# Altium schematic symbol library PHANTOM_LIBRARY.SchLib: 61 symbols (part 1 of 3)
Pins are listed as number, name and electrical type; pins without a type are passive.

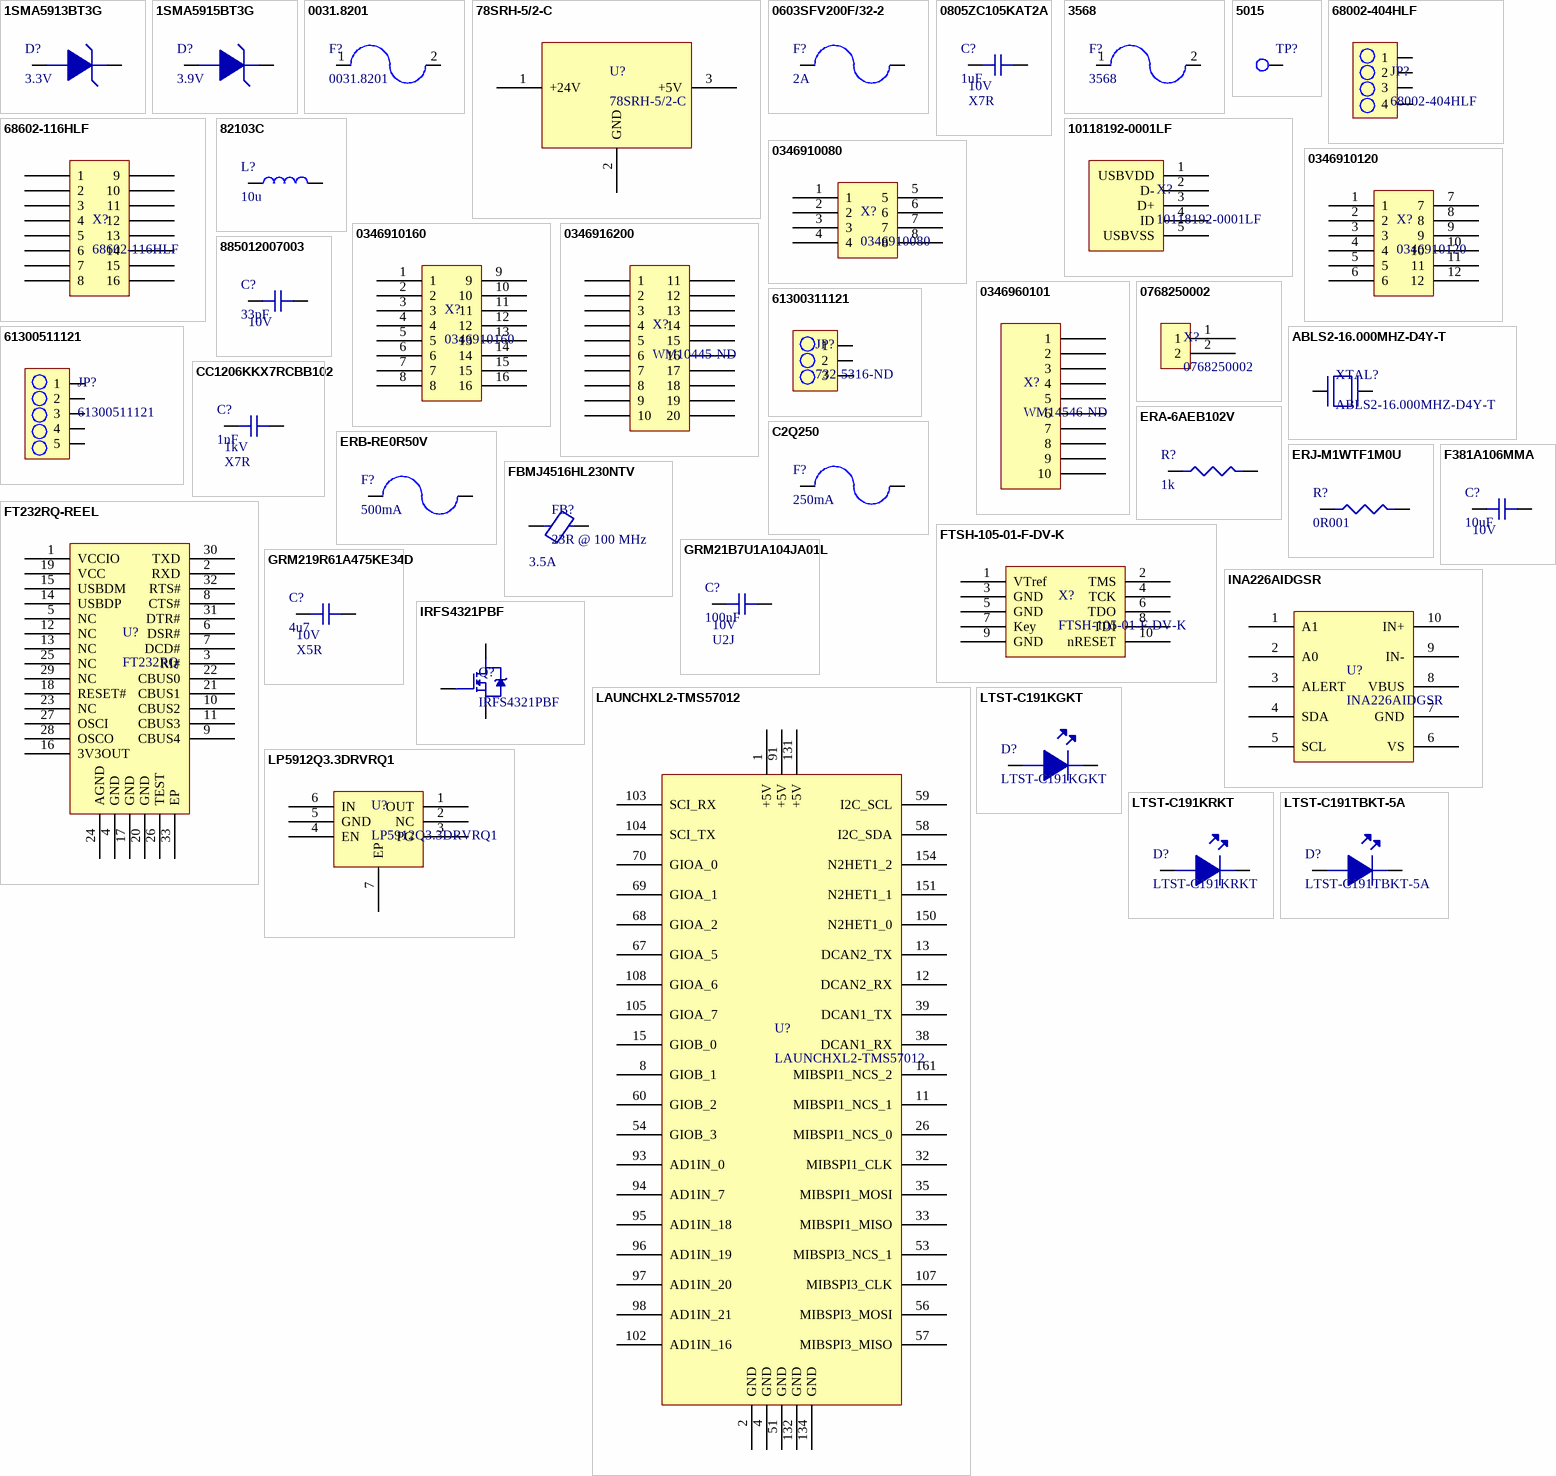
[diagram p0: symbols 1SMA5913BT3G to LTST-C191TBKT-5A]

## 1SMA5913BT3G
designator D?, comment 3.3V
DIODE ZENER 3.3V 1.5W SMA; Manufacturer: ON Semiconductor; Manufacturer Part Number: 1SMA5913BT3G; Material: Plastic; Forward Voltage: 1.5V; Tolerance: 5%; Impedance: 10R; Max Reverse Leakage Current: 50uA; Power Dissipation: 500mW; Zener Current: 455mA; Test Current: 113.6mA; Element Configuration: Single; Breakdown Voltage: 3.47V; Supplier 1: Digi-Key; Stock 1: 12228; Pricing 1: 1=0.38, 10=0.305, 100=0.2076, 500=0.1557, 1000=0.1168 (USD); Case/Package: SMA; Number of Pins: 2; Min Operating Temperature: -65°C; Max Operating Temperature: 150°C; Max Power Dissipation: 1.5W; Package Quantity: 1; Packaging: Tape and Reel; Zener Voltage: 3.3V; Voltage Tolerance: 5%; Working Voltage: 3.3V; Peak Reverse Current: 50uA; Voltage Rating (DC): 3.3V; Power Rating: 1.5W; Length: 4.57mm; Height: 2.05mm; Width: 2.92mm; Radiation Hardening: No; REACH SVHC: No SVHC; Lead Free: Lead Free; Halogen Free: Halogen Free; ComponentLink1URL: https://datasheet.ciiva.com/8026/1sma5913bt3-d-8026917.pdf; ComponentLink1Description: https://datasheet.ciiva.com/8026/1sma5913bt3-d-8026917.pdf; ComponentLink2URL: https://datasheet.ciiva.com/8345/1sma5913bt3-d-8345864.pdf; ComponentLink2Description: https://datasheet.ciiva.com/8345/1sma5913bt3-d-8345864.pdf; ComponentLink3URL: https://datasheet.ciiva.com/8346/1sma5913bt3-d-8346488.pdf; ComponentLink3Description: https://datasheet.ciiva.com/8346/1sma5913bt3-d-8346488.pdf; ComponentLink4URL: https://datasheet.ciiva.com/895/1sma5913bt3-d-895306.pdf; ComponentLink4Description: https://datasheet.ciiva.com/895/1sma5913bt3-d-895306.pdf; ComponentLink5URL: https://datasheet.ciiva.com/15142/getdatasheetpartid-90498-15142554.pdf; ComponentLink5Description: https://datasheet.ciiva.com/15142/getdatasheetpartid-90498-15142554.pdf; ComponentLink6URL: https://datasheet.ciiva.com/895/1sma5913bt3-d-895307.pdf; ComponentLink6Description: https://datasheet.ciiva.com/895/1sma5913bt3-d-895307.pdf; ComponentLink7URL: https://datasheet.ciiva.com/4733/1sma5913bt3-d-4733195.pdf; ComponentLink7Description: https://datasheet.ciiva.com/4733/1sma5913bt3-d-4733195.pdf; ComponentLink8URL: https://datasheet.ciiva.com/895/1sma5913bt3-d-895308.pdf; ComponentLink8Description: https://datasheet.ciiva.com/895/1sma5913bt3-d-895308.pdf; ComponentLink9URL: https://datasheet.ciiva.com/16472/1sma5913bt3-d-16472764.pdf; ComponentLink9Description: https://datasheet.ciiva.com/16472/1sma5913bt3-d-16472764.pdf; ComponentLink10URL: https://datasheet.ciiva.com/49027/70339279-49027772.pdf; ComponentLink10Description: https://datasheet.ciiva.com/49027/70339279-49027772.pdf; ComponentLink11URL: https://datasheet.ciiva.com/8026/1sma5913bt3-d-8026989.pdf; ComponentLink11Description: https://datasheet.ciiva.com/8026/1sma5913bt3-d-8026989.pdf; ComponentLink12URL: https://datasheet.ciiva.com/8026/1sma5913bt3-d-8026990.pdf; ComponentLink12Description: https://datasheet.ciiva.com/8026/1sma5913bt3-d-8026990.pdf; ComponentLink13URL: https://datasheet.ciiva.com/26092/1sma5913bt3-d-26092398.pdf; ComponentLink13Description: https://datasheet.ciiva.com/26092/1sma5913bt3-d-26092398.pdf; Supplier Part Number 1: 1SMA5913BT3GOSCT-ND
footprint DIODE_TVS (Molded Diode, 2-Leads, Body 4.29x2.59mm, IPC Medium Density)
pins: 1, 2

## 1SMA5915BT3G
designator D?, comment 3.9V
DIODE ZENER 3.9V 1.5W SMA; Manufacturer: ON Semiconductor; Manufacturer Part Number: 1SMA5915BT3G; Tolerance: 5%; Max Reverse Leakage Current: 12.5uA; Impedance: 7.5R; Element Configuration: Single; Forward Voltage: 1.5V; Power Dissipation: 500mW; Zener Current: 385mA; Test Current: 96.1mA; Breakdown Voltage: 12V; ESD Protection: Yes; Supplier 1: Digi-Key; Stock 1: 21605; Pricing 1: 1=0.41, 10=0.335, 100=0.2284, 500=0.1713, 1000=0.1285 (USD); Case/Package: SMA; Number of Pins: 2; Contact Plating: Tin,Matte; Min Operating Temperature: -65°C; Max Operating Temperature: 150°C; Max Power Dissipation: 1.5W; Package Quantity: 1; Packaging: Tape and Reel; Zener Voltage: 3.9V; Voltage Tolerance: 5%; Working Voltage: 3.9V; Peak Reverse Current: 12.5uA; Power Rating: 1.5W; Voltage Rating (DC): 3.9V; Length: 4.57mm; Height: 2.05mm; Width: 2.92mm; Radiation Hardening: No; Lead Free: Lead Free; Halogen Free: Halogen Free; REACH SVHC: No SVHC; ComponentLink1URL: https://datasheet.ciiva.com/895/1sma5913bt3-d-895333.pdf; ComponentLink1Description: https://datasheet.ciiva.com/895/1sma5913bt3-d-895333.pdf; ComponentLink2URL: https://datasheet.ciiva.com/26092/1sma5913bt3-d-26092405.pdf; ComponentLink2Description: https://datasheet.ciiva.com/26092/1sma5913bt3-d-26092405.pdf; ComponentLink3URL: https://datasheet.ciiva.com/895/1sma5913bt3-d-895334.pdf; ComponentLink3Description: https://datasheet.ciiva.com/895/1sma5913bt3-d-895334.pdf; ComponentLink4URL: https://datasheet.ciiva.com/895/1sma5913bt3-d-895335.pdf; ComponentLink4Description: https://datasheet.ciiva.com/895/1sma5913bt3-d-895335.pdf; ComponentLink5URL: https://datasheet.ciiva.com/8026/1sma5913bt3-d-8026919.pdf; ComponentLink5Description: https://datasheet.ciiva.com/8026/1sma5913bt3-d-8026919.pdf; ComponentLink6URL: https://datasheet.ciiva.com/16311/1sma5913bt3-d-16311880.pdf; ComponentLink6Description: https://datasheet.ciiva.com/16311/1sma5913bt3-d-16311880.pdf; ComponentLink7URL: https://datasheet.ciiva.com/10639/1sma5913bt3-d-10639017.pdf; ComponentLink7Description: https://datasheet.ciiva.com/10639/1sma5913bt3-d-10639017.pdf; Supplier Part Number 1: 1SMA5915BT3GOSCT-ND
footprint DIODE_TVS (Molded Diode, 2-Leads, Body 4.29x2.59mm, IPC Medium Density)
pins: 1, 2

## 0031.8201
designator F?
FUSE HOLDER, PCB, 20X5MM; Manufacturer: Schurter; Colour: Black; Body Material: Thermoplastic; Material: Tin,Thermoplastic; Current Rating: 10A; Voltage Rating: 250V; Number of Poles: 1; Voltage Rating (DC): 500V; Illumination Type: Illuminated; Insulation Resistance: 40MR; Approvals: UL,CSA,IEC,EN; Supplier 1: Digi-Key; Manufacturer Part Number: 0031.8201; Stock 1: 38678; Pricing 1: 1=0.63, 10=0.589, 20=0.548, 50=0.4932, 100=0.4658, 200=0.4384, 500=0.411, 1000=0.3836, 5000=0.3644 (USD); Mount: Through Hole,PCB; Weight: 0.059966oz; Contact Material: Tin,Copper Alloy; Contact Plating: Tin; Min Operating Temperature: -40°C; Max Operating Temperature: 85°C; Packaging: Bulk; Package Quantity: 100; Voltage Rating (AC): 500V; Number of Circuits: 1; Voltage: 500V; Termination: PC Pin; Fuse Current: 10A; Orientation: Horizontal; Length: 25mm; Depth: 10.8mm; Radiation Hardening: No; REACH SVHC: No SVHC; Lead Free: Lead Free; Flammability Rating: UL94 V-0; ComponentLink1URL: https://datasheet.ciiva.com/3014/typ-ogn-3014480.pdf; ComponentLink1Description: https://datasheet.ciiva.com/3014/typ-ogn-3014480.pdf; ComponentLink2URL: https://datasheet.ciiva.com/1269/1842496-1269251.pdf; ComponentLink2Description: https://datasheet.ciiva.com/1269/1842496-1269251.pdf; ComponentLink3URL: https://datasheet.ciiva.com/15188/getdatasheetpartid-392104-15188042.pdf; ComponentLink3Description: https://datasheet.ciiva.com/15188/getdatasheetpartid-392104-15188042.pdf; ComponentLink4URL: https://datasheet.ciiva.com/16203/typ-ogn-16203626.pdf; ComponentLink4Description: https://datasheet.ciiva.com/16203/typ-ogn-16203626.pdf; ComponentLink5URL: https://datasheet.ciiva.com/16463/typ-ogn-16463850.pdf; ComponentLink5Description: https://datasheet.ciiva.com/16463/typ-ogn-16463850.pdf; ComponentLink6URL: https://datasheet.ciiva.com/16215/typ-ogn-16215099.pdf; ComponentLink6Description: https://datasheet.ciiva.com/16215/typ-ogn-16215099.pdf; ComponentLink7URL: https://datasheet.ciiva.com/25893/typ-ogn-25893934.pdf; ComponentLink7Description: https://datasheet.ciiva.com/25893/typ-ogn-25893934.pdf; Supplier Part Number 1: 486-1258-ND
footprint FUSE_HOLDER
pins: 1, 2

## 78SRH-5/2-C
designator U?
DCDC 5V MURATA POWER SOLUTIONS 	   	78SRH-5/2-C 	   	IC, SYNC SWITCHING REGULATOR, TO-220-3; Output Current: 2A; Number of Outputs: 1; Max Input Voltage: 32V; Min Input Voltage: 8V; Nominal Input Voltage: 12V; Output Power: 10W; Efficiency: 95%; Isolation: Isolated; Supplier 1: Digi-Key; Manufacturer: Murata; Manufacturer Part Number: 78SRH-5/2-C; Stock 1: 2978; Pricing 1: 1=13.95, 5=12.2, 10=10.959 (USD); Mount: Through Hole; Case/Package: SIP; Number of Pins: 3; Weight: 1lb; Min Operating Temperature: -40°C; Max Operating Temperature: 70°C; Packaging: Box; Output Voltage: 5V; Max Output Current: 2A; Nominal Output Voltage: 5V; Min Input Voltage (DC): 8V; Package Quantity: 144; Max Input Voltage (DC): 32V; Voltage - Output 1: 5V; Current - Output 1: 2A; Max Output Power: 10W; Max Power Dissipation: 10W; Length: 20.3mm; Height: 0.28inch; Width: 0.8inch; Depth: 7.1mm; Radiation Hardening: No; REACH SVHC: No SVHC; Lead Free: Lead Free; ComponentLink1URL: https://datasheet.ciiva.com/3240/mpm-78sr-2a-a00-3240576.pdf; ComponentLink1Description: https://datasheet.ciiva.com/3240/mpm-78sr-2a-a00-3240576.pdf; ComponentLink2URL: https://datasheet.ciiva.com/1170/698935-1170225.pdf; ComponentLink2Description: https://datasheet.ciiva.com/1170/698935-1170225.pdf; ComponentLink3URL: https://datasheet.ciiva.com/26809/getdatasheetpartid-357559-26809336.pdf; ComponentLink3Description: https://datasheet.ciiva.com/26809/getdatasheetpartid-357559-26809336.pdf; ComponentLink4URL: https://datasheet.ciiva.com/16627/mpm-78sr-2a-a00-16627849.pdf; ComponentLink4Description: https://datasheet.ciiva.com/16627/mpm-78sr-2a-a00-16627849.pdf; ComponentLink5URL: https://datasheet.ciiva.com/16405/mpm-78sr-2a-a00-16405759.pdf; ComponentLink5Description: https://datasheet.ciiva.com/16405/mpm-78sr-2a-a00-16405759.pdf; Supplier Part Number 1: 811-2657-ND
footprint DCDC1
pins: 1 +24V, 2 GND, 3 +5V

## 0603SFV200F/32-2
designator F?, comment 2A
FUSE_2A SMD 0603 LITTELFUSE; Manufacturer Part Number: 0603SFV200F/32-2; Supplier 1: Digi-Key; Manufacturer: Littelfuse; Stock 1: 17588; Pricing 1: 1=1.2, 5=1.166, 10=1.091, 50=0.9028, 100=0.7524, 250=0.7336, 500=0.6207, 1000=0.5455 (USD); ComponentLink1URL: //media.digikey.com/pdf/Data%20Sheets/Littelfuse%20PDFs/SMD_Fuses_Fundamentals.pdf; ComponentLink1Description: //media.digikey.com/pdf/Data%20Sheets/Littelfuse%20PDFs/SMD_Fuses_Fundamentals.pdf; Supplier Part Number 1: 0603SFV200F/32-2CT-ND; Current Rating: 2A
footprint FUSE_0603 (Chip Diode, 2-Leads, Body 1.60x0.80mm, IPC Medium Density)
pins: 1, 2

## 0805ZC105KAT2A
designator C?, comment 1uF  Dielectric: X7R  Voltage: 10V
CAP CER 1UF 10V X7R 0805; Manufacturer: Kyocera AVX; Manufacturer Part Number: 0805ZC105KAT2A; Tolerance: 10%; Dissipation Factor: 5%; Insulation Resistance: 100GR; Supplier 1: Digi-Key; Stock 1: 385183; Pricing 1: 1=0.21, 10=0.147, 100=0.069, 500=0.0484, 1000=0.0401 (USD); Mount: Surface Mount,PCB; Case/Package: 0805; Number of Pins: 2; Case Code (Imperial): 0805; Case Code (Metric): 2012; Contact Plating: Tin,Matte; Min Operating Temperature: -55°C; Max Operating Temperature: 125°C; Capacitance: 1uF; Voltage Rating: 10V; Voltage Rating (DC): 10V; Packaging: Tape and Reel; Package Quantity: 1; Termination: SMD/SMT; Length: 2.01mm; Height: 1.4mm; Width: 1.25mm; Thickness: 0.055inch; Depth: 1.25mm; Radiation Hardening: No; REACH SVHC: No SVHC; Lead Free: Lead Free; ComponentLink1URL: https://datasheet.ciiva.com/2988/cx7r-2988071.pdf; ComponentLink1Description: https://datasheet.ciiva.com/2988/cx7r-2988071.pdf; ComponentLink2URL: https://datasheet.ciiva.com/2988/cx7r-2988072.pdf; ComponentLink2Description: https://datasheet.ciiva.com/2988/cx7r-2988072.pdf; ComponentLink3URL: https://datasheet.ciiva.com/14601/70001075-14601048.pdf; ComponentLink3Description: https://datasheet.ciiva.com/14601/70001075-14601048.pdf; ComponentLink4URL: https://datasheet.ciiva.com/14594/70001075-14594329.pdf; ComponentLink4Description: https://datasheet.ciiva.com/14594/70001075-14594329.pdf; ComponentLink5URL: https://datasheet.ciiva.com/25901/cx7r-25901193.pdf; ComponentLink5Description: https://datasheet.ciiva.com/25901/cx7r-25901193.pdf; ComponentLink6URL: https://datasheet.ciiva.com/15165/getdatasheetpartid-71567-15165451.pdf; ComponentLink6Description: https://datasheet.ciiva.com/15165/getdatasheetpartid-71567-15165451.pdf; ComponentLink7URL: https://datasheet.ciiva.com/151/cx7r-151916.pdf; ComponentLink7Description: https://datasheet.ciiva.com/151/cx7r-151916.pdf; ComponentLink8URL: https://datasheet.ciiva.com/151/cx7r-151917.pdf; ComponentLink8Description: https://datasheet.ciiva.com/151/cx7r-151917.pdf; ComponentLink9URL: https://datasheet.ciiva.com/151/cx7r-151918.pdf; ComponentLink9Description: https://datasheet.ciiva.com/151/cx7r-151918.pdf; ComponentLink10URL: https://datasheet.ciiva.com/11787/0900766b80ed4be2-11787102.pdf; ComponentLink10Description: https://datasheet.ciiva.com/11787/0900766b80ed4be2-11787102.pdf; ComponentLink11URL: https://datasheet.ciiva.com/7812/84526-7812223.pdf; ComponentLink11Description: https://datasheet.ciiva.com/7812/84526-7812223.pdf; ComponentLink12URL: https://datasheet.ciiva.com/19475/2011248-19475855.pdf; ComponentLink12Description: https://datasheet.ciiva.com/19475/2011248-19475855.pdf; Supplier Part Number 1: 478-1405-1-ND
footprint C0805
pins: 1, 2

## 3568
designator F?
FUSE HOLDER MINI AUTO PC; Manufacturer: Keystone Electronics; Colour: Black; Material: Brass,Nickel,Tin,Nylon; Body Material: Nylon; Current Rating: 20A; Voltage Rating (AC): 500V; Number of Poles: 1; Illumination Type: Illuminated; Fuse Type: Automotive; Approvals: UL; Supplier 1: Digi-Key; Manufacturer Part Number: 3568; Stock 1: 69840; Pricing 1: 1=0.98, 10=0.853, 50=0.7694, 100=0.7359, 250=0.669, 1000=0.599, 2500=0.502, 5000=0.4683 (USD); Mount: Vertical,PCB; Contact Material: Brass,Nickel,Tin; Contact Plating: Tin; Min Operating Temperature: -50°C; Max Operating Temperature: 145°C; Package Quantity: 1; Number of Circuits: 1; Voltage: 500V; Termination: PC Pin; Fuse Current: 20A; Orientation: Vertical; Length: 16mm; Depth: 6.73mm; REACH SVHC: No SVHC; Lead Free: Lead Free; Flammability Rating: UL94 V-0; ComponentLink1URL: https://datasheet.ciiva.com/16294/m60-2p40-16294706.pdf; ComponentLink1Description: https://datasheet.ciiva.com/16294/m60-2p40-16294706.pdf; ComponentLink2URL: https://datasheet.ciiva.com/16874/70182101-16874378.pdf; ComponentLink2Description: https://datasheet.ciiva.com/16874/70182101-16874378.pdf; Supplier Part Number 1: 36-3568-ND
footprint FUSE_MINI_HOLDER
pins: 1, 2

## 5015
designator TP?  (value not drawn)
TEST POINT, PCB, SMT; Manufacturer: Keystone Electronics; Number of Ports: 1; Supplier 1: Digi-Key; Manufacturer Part Number: 5015; Stock 1: 1937775; Pricing 1: 1=0.44, 10=0.421, 25=0.3604, 50=0.3064, 100=0.2944, 250=0.2644, 500=0.2524 (USD); Mount: Surface Mount; Colour: White; Contact Material: Bronze; Contact Plating: Tin,Silver,Lead; Material: Bronze,Silver; Package Quantity: 1; Packaging: Tape and Reel; Termination: Solder; Orientation: Straight; Length: 2.66mm; Height: 0.06inch; Thickness: 0.01inch; Depth: 1.01mm; REACH SVHC: No SVHC; Lead Free: Lead Free; ComponentLink1URL: https://datasheet.ciiva.com/2917/5015-2917616.pdf; ComponentLink1Description: https://datasheet.ciiva.com/2917/5015-2917616.pdf; ComponentLink2URL: https://datasheet.ciiva.com/2917/5015-2917617.pdf; ComponentLink2Description: https://datasheet.ciiva.com/2917/5015-2917617.pdf; ComponentLink3URL: https://datasheet.ciiva.com/1123/5015-1123862.pdf; ComponentLink3Description: https://datasheet.ciiva.com/1123/5015-1123862.pdf; ComponentLink4URL: https://datasheet.ciiva.com/16883/70182998-16883734.pdf; ComponentLink4Description: https://datasheet.ciiva.com/16883/70182998-16883734.pdf; Supplier Part Number 1: 36-5015CT-ND
footprint TP_HOOK
pins: 1

## 68002-404HLF
designator JP?
CONN_HeaderPins4pos 4 Positions Header, Unshrouded Connector 0.100" (2.54mm) Through Hole Tin; Manufacturer: Amphenol FCI; Number of Positions: 4; Max Voltage Rating (AC): 1.5kV; Gender: Male; Connector Type: Male Pin; Current Rating: 3A; Insulation Resistance: 5GR; Mating Post Length: 5.84mm; Supplier 1: Digi-Key; Manufacturer Part Number: 68002-404HLF; Stock 1: 4956; Pricing 1: 1=0.21, 10=0.195, 100=0.1352, 500=0.1144, 1000=0.0936, 5000=0.0832, 10000=0.0754 (USD); Mount: Through Hole; Contact Plating: Nickel,Tin; Contact Material: Bronze; Colour: Black; Housing Colour: Black; Housing Material: Thermoplastic; Min Operating Temperature: -65°C; Max Operating Temperature: 125°C; Number of Rows: 1; Packaging: Bulk; Package Quantity: 100; Termination: Solder; Number of Contacts: 4; Orientation: Straight; Voltage Rating: 1.5kV; Contact Gender: Male; Length: 10.16mm; Pitch: 2.54mm; Depth: 2.41mm; Contact Mating Length: 0.23inch; Termination Post Length: 3.81mm; Radiation Hardening: No; Flammability Rating: UL94 V-0; ComponentLink1URL: https://datasheet.ciiva.com/9474/68000-9474358.pdf; ComponentLink1Description: https://datasheet.ciiva.com/9474/68000-9474358.pdf; ComponentLink2URL: https://datasheet.ciiva.com/16725/68000-16725993.pdf; ComponentLink2Description: https://datasheet.ciiva.com/16725/68000-16725993.pdf; ComponentLink3URL: https://datasheet.ciiva.com/728/68000-728877.pdf; ComponentLink3Description: https://datasheet.ciiva.com/728/68000-728877.pdf; Supplier Part Number 1: 609-3305-ND
footprint 4PIN_HEADER
pins: 1, 2, 3, 4

## 68602-116HLF
designator X?
CONN_HeaderPins16pos1  6 Positions Header, Unshrouded Connector 0.100" (2.54mm) Through Hole Gold or Gold, GXT™; Manufacturer: Amphenol FCI; Current Rating: 3A; Voltage Rating: 1.5kV; Number of Positions: 16; Gender: Male; Connector Type: Male Pin; Insulation Resistance: 5GR; Row Spacing: 0.1inch; Mating Post Length: 5.84mm; Supplier 1: Digi-Key; Manufacturer Part Number: 68602-116HLF; Stock 1: 1898; Pricing 1: 1=0.79, 10=0.698, 100=0.6019, 500=0.4925, 1000=0.4378, 5000=0.383, 10000=0.3639 (USD); Mount: Through Hole; Contact Plating: Nickel,Gold,GXT; Contact Material: Bronze; Colour: Black; Housing Colour: Black; Housing Material: Thermoplastic; Min Operating Temperature: -65°C; Max Operating Temperature: 125°C; Number of Rows: 2; Packaging: Bulk; Package Quantity: 100; Termination: Solder; Max Voltage Rating (AC): 1.5kV; Number of Contacts: 16; Orientation: Straight; Contact Gender: Male; Length: 20.32mm; Pitch: 2.54mm; Depth: 4.83mm; Contact Mating Length: 0.23inch; Termination Post Length: 3.81mm; Radiation Hardening: No; REACH SVHC: No SVHC; Flammability Rating: UL94 V-0; ComponentLink1URL: https://datasheet.ciiva.com/16726/67996-16726040.pdf; ComponentLink1Description: https://datasheet.ciiva.com/16726/67996-16726040.pdf; ComponentLink2URL: https://datasheet.ciiva.com/9465/67996-9465931.pdf; ComponentLink2Description: https://datasheet.ciiva.com/9465/67996-9465931.pdf; ComponentLink3URL: https://datasheet.ciiva.com/728/67996-728940.pdf; ComponentLink3Description: https://datasheet.ciiva.com/728/67996-728940.pdf; ComponentLink4URL: https://datasheet.ciiva.com/5157/67996-225486-5157197.pdf; ComponentLink4Description: https://datasheet.ciiva.com/5157/67996-225486-5157197.pdf; Supplier Part Number 1: 609-3364-ND
footprint 16PIN_HEADER
pins: 1, 2, 3, 4, 5, 6, 7, 8, 9, 10, 11, 12, 13, 14, 15, 16

## 82103C
designator L?, comment 10u
Inductor Fixed 10uH 0.5A Mini SMT Power; Manufacturer: Murata; Manufacturer Part Number: 82103C; Tolerance: 10%; Self Resonant Frequency: 38MHz; Q Factor: 35; Current Rating: 500mA; Shielding: Unshielded; DC Resistance (DCR): 400mR; Test Frequency: 10KHz; Supplier 1: Digi-Key; Stock 1: 1668; Pricing 1: 1=0.32, 100=0.2906 (USD); Mount: Surface Mount; Case/Package: 1210; Case Code (Metric): 3225; Case Code (Imperial): 1210; Min Operating Temperature: -40°C; Max Operating Temperature: 85°C; Packaging: Tape and Reel; Package Quantity: 1; Composition: Wirewound; Inductance: 10uh; Max DC Current: 500mA; Termination: SMD/SMT; DC Current: 500mA; Military Standard: Not; Length: 0.126inch; Height: 2mm; Width: 0.098inch; Height - Seated (Max): 0.092inch; Depth: 2.7mm; Radiation Hardening: No; ComponentLink1URL: https://datasheet.ciiva.com/6690/kmp-8200c-6690973.pdf; ComponentLink1Description: https://datasheet.ciiva.com/6690/kmp-8200c-6690973.pdf; ComponentLink2URL: https://datasheet.ciiva.com/6690/kmp-8200c-6690974.pdf; ComponentLink2Description: https://datasheet.ciiva.com/6690/kmp-8200c-6690974.pdf; ComponentLink3URL: https://datasheet.ciiva.com/6690/kmp-8200c-6690975.pdf; ComponentLink3Description: https://datasheet.ciiva.com/6690/kmp-8200c-6690975.pdf; Supplier Part Number 1: 811-2473-6-ND
footprint INDUCTOR (Precision Wire Wound Inductor, 2-Leads, Body 3.20x2.50mm, IPC Medium Density)
pins: 1, 2

## 10118192-0001LF
designator X?
CONN_USB - micro B USB 2.0 Receptacle Connector 5 Position Surface Mount, Right Angle, Horizontal; Manufacturer: Amphenol FCI; Current Rating: 1.8A; Connector Type: USB,Receptacle; Number of Contacts: 5; Insulation Resistance: 1GR; Number of Ports: 1; Max Voltage Rating (AC): 100V; USB Standard: USB 2.0; Pitch: 0.65mm; Supplier 1: Digi-Key; Manufacturer Part Number: 10118192-0001LF; Stock 1: 197826; Pricing 1: 1=0.46, 10=0.437, 25=0.3744, 50=0.318, 100=0.3056, 250=0.2744, 500=0.262 (USD); Mount: Surface Mount,Horizontal; Contact Material: Copper Alloy; Contact Plating: Nickel,Gold; Number of Terminals: 5; Housing Material: Polymer; Colour: Black; Min Operating Temperature: -55°C; Max Operating Temperature: 85°C; Packaging: Tape and Reel; Package Quantity: 1400; Gender: Receptacle; Termination: Solder; Voltage Rating: 100V; Orientation: Right Angle; Length: 7.86mm; Depth: 5.57mm; Radiation Hardening: No; REACH SVHC: No SVHC; Lead Free: Lead Free; Flammability Rating: UL94 V-0; ComponentLink1URL: https://datasheet.ciiva.com/26853/getdatasheetpartid-418041-26853891.pdf; ComponentLink1Description: https://datasheet.ciiva.com/26853/getdatasheetpartid-418041-26853891.pdf; ComponentLink2URL: https://datasheet.ciiva.com/851/10118192-851112.pdf; ComponentLink2Description: https://datasheet.ciiva.com/851/10118192-851112.pdf; ComponentLink3URL: https://datasheet.ciiva.com/4598/10118192ac-197249-4598796.pdf; ComponentLink3Description: https://datasheet.ciiva.com/4598/10118192ac-197249-4598796.pdf; Supplier Part Number 1: 609-4613-1-ND
footprint USB_MICRO
pins: 1 USBVDD, 2 D-, 3 D+, 4 ID, 5 USBVSS

## 0346910080
designator X?
CONN_8Positions Molex Stac64 0.100" (2.54mm) Through Hole, Right Angle Tin; Number of Positions: 8; Connector Type: Male Pin; Pitch: 0.1inch; Supplier 1: Digi-Key; Manufacturer: Molex; Manufacturer Part Number: 0346910080; Stock 1: 3106; Pricing 1: 1=1.4, 10=1.269, 100=1.0876, 500=0.9063, 1000=0.7769, 5000=0.6888, 10000=0.6733 (USD); Mount: Through Hole; Colour: Black; Contact Plating: Nickel,Tin; Contact Material: Brass; Housing Colour: Black; Housing Material: Thermoplastic; Min Operating Temperature: -40°C; Max Operating Temperature: 105°C; Number of Rows: 2; Packaging: Tray; Termination: Solder; Orientation: Right Angle; Length: 18.8mm; Row Spacing: 0.1inch; Radiation Hardening: No; Lead Free: Lead Free; ComponentLink1URL: https://datasheet.ciiva.com/736/346910080-sd-736167.pdf; ComponentLink1Description: https://datasheet.ciiva.com/736/346910080-sd-736167.pdf; ComponentLink2URL: https://datasheet.ciiva.com/3119/0346910080-pcb-headers-3119150.pdf; ComponentLink2Description: https://datasheet.ciiva.com/3119/0346910080-pcb-headers-3119150.pdf; Supplier Part Number 1: WM6285-ND
footprint MOLEX_8PIN
pins: 1, 2, 3, 4, 5, 6, 7, 8

## 0346910120
designator X?
CONN_12Positions Molex Stac64 12 POS 2.54mm Solder RA Thru-Hole Stac64™ Tray; Number of Positions: 12; Gender: Male; Connector Type: Male Pin; Pitch: 0.1inch; Supplier 1: Digi-Key; Manufacturer: Molex; Manufacturer Part Number: 0346910120; Stock 1: 743; Pricing 1: 1=1.75, 10=1.589, 100=1.3616, 500=1.1347, 1000=0.9726, 5000=0.8624, 10000=0.8429 (USD); Mount: Through Hole; Contact Plating: Nickel,Tin; Contact Material: Brass; Colour: Black; Housing Colour: Black; Housing Material: Polystyrene; Min Operating Temperature: -40°C; Max Operating Temperature: 105°C; Number of Rows: 2; Packaging: Tray; Package Quantity: 784; Termination: Solder; Orientation: Right Angle; Length: 23.88mm; Row Spacing: 0.1inch; Radiation Hardening: No; ComponentLink1URL: https://datasheet.ciiva.com/736/346910080-sd-736167.pdf; ComponentLink1Description: https://datasheet.ciiva.com/736/346910080-sd-736167.pdf; ComponentLink2URL: https://datasheet.ciiva.com/3119/0346910120-pcb-headers-3119151.pdf; ComponentLink2Description: https://datasheet.ciiva.com/3119/0346910120-pcb-headers-3119151.pdf; Supplier Part Number 1: WM14541-ND
footprint MOLEX_12PIN
pins: 1, 2, 3, 4, 5, 6, 7, 8, 9, 10, 11, 12

## 0346910160
designator X?
CONN_16Positions Molex Stac64 16 POS 2.54mm Solder RA Thru-Hole Stac64™ Tray; Number of Positions: 16; Gender: Male; Connector Type: Male Pin; Row Spacing: 0.1inch; Supplier 1: Digi-Key; Manufacturer: Molex; Manufacturer Part Number: 0346910160; Stock 1: 164; Pricing 1: 1=2.14, 10=1.942, 100=1.6645, 500=1.3871, 1000=1.1889, 5000=1.0542 (USD); Mount: Through Hole; Contact Plating: Nickel,Tin; Colour: Black; Contact Material: Brass; Housing Colour: Black; Housing Material: Polystyrene; Min Operating Temperature: -40°C; Max Operating Temperature: 105°C; Number of Rows: 2; Package Quantity: 616; Packaging: Tray; Termination: Solder; Number of Contacts: 16; Orientation: Right Angle; Length: 28.96mm; Pitch: 2.54mm; Radiation Hardening: No; ComponentLink1URL: https://datasheet.ciiva.com/3119/0346910160-pcb-headers-3119152.pdf; ComponentLink1Description: https://datasheet.ciiva.com/3119/0346910160-pcb-headers-3119152.pdf; ComponentLink2URL: https://datasheet.ciiva.com/18485/346910160-sd-18485474.pdf; ComponentLink2Description: https://datasheet.ciiva.com/18485/346910160-sd-18485474.pdf; ComponentLink3URL: https://datasheet.ciiva.com/736/346910160-sd-736173.pdf; ComponentLink3Description: https://datasheet.ciiva.com/736/346910160-sd-736173.pdf; Supplier Part Number 1: WM9799-ND
footprint MOLEX_16PIN
pins: 1, 2, 3, 4, 5, 6, 7, 8, 9, 10, 11, 12, 13, 14, 15, 16

## 0346916200
designator X?, comment WM10445-ND
CONN_20Positions Molex Stac64 Header, Shrouded Connector 0.100" (2.54mm) Through Hole, Right Angle Tin; Manufacturer Part Number: 0346916200; Number of Positions: 20; Connector Type: Male Pin; Pitch: 0.1inch; Supplier 1: Digi-Key; Manufacturer: Molex; Stock 1: 334; Pricing 1: 1=3.07, 10=2.946, 100=2.4546, 500=2.0864, 1000=1.7796, 5000=1.5955 (USD); Case/Package: 100; Colour: Black; Contact Plating: Tin; Package Quantity: 560; Packaging: Tray; Number of Rows: 2; Termination: Solder; Row Spacing: 0.1inch; ComponentLink1URL: https://datasheet.ciiva.com/29142/987651-0141-29142848.pdf; ComponentLink1Description: https://datasheet.ciiva.com/29142/987651-0141-29142848.pdf; Supplier Part Number 1: WM10445-ND
footprint MOLEX_20pin
pins: 1, 2, 3, 4, 5, 6, 7, 8, 9, 10, 11, 12, 13, 14, 15, 16, 17, 18, 19, 20

## 0346960101
designator X?, comment WM14546-ND
CONN_10Positions Molex Stac64 Thru-Hole Tray; Manufacturer Part Number: 0346960101; Number of Positions: 10; Gender: Male; Connector Type: Male Pin; Row Spacing: 0.248inch; Pitch: 2.54mm; Supplier 1: Digi-Key; Manufacturer: Molex; Stock 1: 1144; Pricing 1: 1=2.65, 10=2.54, 100=2.1164, 500=1.7989, 1000=1.5344, 5000=1.3757 (USD); Mount: Through Hole; Colour: Grey; Contact Plating: Tin; Contact Material: Copper; Housing Colour: Natural; Housing Material: Thermoplastic; Min Operating Temperature: -40°C; Max Operating Temperature: 100°C; Package Quantity: 560; Number of Rows: 2; Fastening Type: Latch; Packaging: Tray; Termination: Solder; Number of Contacts: 10; Orientation: Right Angle; Length: 34.04mm; ComponentLink1URL: https://datasheet.ciiva.com/6844/346960101-sd-6844161.pdf; ComponentLink1Description: https://datasheet.ciiva.com/6844/346960101-sd-6844161.pdf; ComponentLink2URL: https://datasheet.ciiva.com/10081/0346960101-pcb-headers-10081642.pdf; ComponentLink2Description: https://datasheet.ciiva.com/10081/0346960101-pcb-headers-10081642.pdf; Supplier Part Number 1: WM14546-ND
footprint MOLEX_10PIN
pins: 1, 2, 3, 4, 5, 6, 7, 8, 9, 10

## 0768250002
designator X?
CONN_2Position_MEGAFIT Molex Through Hole, Right Angle Tin; Number of Positions: 2; Connector Type: Male Pin; Row Spacing: 0.224inch; Supplier 1: Digi-Key; Manufacturer: Molex; Manufacturer Part Number: 0768250002; Stock 1: 2862; Pricing 1: 1=1.08, 10=0.946, 25=0.89, 50=0.853, 100=0.816, 250=0.7418, 500=0.6676, 1000=0.5934, 2500=0.5378 (USD); Mount: Through Hole; Colour: Black; Contact Plating: Tin; Packaging: Tray; Number of Rows: 2; Termination: Solder; Fastening Type: Ramp; ComponentLink1URL: http://www.molex.com/pdm_docs/ps/PS-76823-100.pdf; ComponentLink1Description: http://www.molex.com/pdm_docs/ps/PS-76823-100.pdf; Supplier Part Number 1: WM11969-ND
footprint MOLEX_2PIN_MEGAFIT
pins: 1, 2

## 61300311121
designator JP?, comment 732-5316-ND
CONN_HeaderPins3pos WURTH ELEKTRONIK Board-To-Board Connector, Vertical, WR-PHD Series, Through Hole, Header, 3 Contacts, 2.54 mm; Manufacturer: Wurth Electronics; Manufacturer Part Number: 61300311121; Number of Positions: 3; Gender: Male; Connector Type: Male Pin; Pitch: 0.1inch; Supplier 1: Digi-Key; Stock 1: 57026; Pricing 1: 1=0.13, 10=0.106, 25=0.088, 50=0.074, 100=0.067, 1000=0.061 (USD); Mount: Through Hole; Case/Package: 100; Contact Plating: Gold; Contact Material: Copper; Colour: Black; Number of Rows: 1; Packaging: Bulk; Termination: Solder; Number of Contacts: 3; Contact Mating Length: 0.236inch; REACH SVHC: Unknown; Lead Free: Lead Free; ComponentLink1URL: http://www.farnell.com/cad/1737268.pdf; ComponentLink1Description: http://www.farnell.com/cad/1737268.pdf; Supplier Part Number 1: 732-5316-ND
footprint 3PIN_HEADER
pins: 1, 2, 3

## 61300511121
designator JP?
CONN_HeaderPins5pos WURTH ELEKTRONIK         61300511121            Board-To-Board Connector, Vertical, WR-PHD Series, Through Hole, Header, 5 Contacts, 2.54 mm; Manufacturer: Wurth Electronics; Number of Positions: 5; Gender: Male; Connector Type: Male Pin; Pitch: 0.1inch; Supplier 1: Digi-Key; Manufacturer Part Number: 61300511121; Stock 1: 13004; Pricing 1: 1=0.25, 10=0.209, 25=0.174, 50=0.145, 100=0.132, 1000=0.12 (USD); Mount: Through Hole; Contact Plating: Gold; Contact Material: Copper; Colour: Black; Number of Rows: 1; Packaging: Bulk; Termination: Solder; Number of Contacts: 5; Contact Mating Length: 0.236inch; REACH SVHC: Unknown; Lead Free: Lead Free; ComponentLink1URL: http://www.farnell.com/cad/1737268.pdf; ComponentLink1Description: http://www.farnell.com/cad/1737268.pdf; Supplier Part Number 1: 732-5318-ND
footprint 5PIN_HEADER
pins: 1, 2, 3, 4, 5

## 885012007003
designator C?, comment 33pF  Voltage Rating: 10V
CAP MLCC 33pF 10V Ceramic Capacitor C0G, NP0 0805 (2012 Metric) 0.079" L x 0.049" W (2.00mm x 1.25mm); Manufacturer: Wurth Electronics; Manufacturer Part Number: 885012007003; Tolerance: 5%; Supplier 1: Digi-Key; Stock 1: 3090; Pricing 1: 1=0.1, 50=0.068, 100=0.062, 250=0.056, 500=0.05, 1000=0.045 (USD); Mount: Surface Mount; Case/Package: 0805; Case Code (Metric): 2012; Case Code (Imperial): 0805; Min Operating Temperature: -55°C; Max Operating Temperature: 125°C; Packaging: Tape and Reel; Capacitance: 33pF; Length: 0.079inch; Width: 0.049inch; Thickness: 0.028inch; Supplier Part Number 1: 732-7808-1-ND
footprint C0805
pins: 1, 2

## ABLS2-16.000MHZ-D4Y-T
designator XTAL?
XTAL 16MHz ±30ppm Crystal 18pF 40 Ohm -40°C ~ 85°C  Surface Mount HC49/US; Manufacturer: Abracon; ESR (Equivalent Series Resistance): 40R; Supplier 1: Digi-Key; Manufacturer Part Number: ABLS2-16.000MHZ-D4Y-T; Stock 1: 14083; Pricing 1: 1=0.46, 10=0.385, 50=0.3466, 100=0.308, 500=0.2926 (USD); Mount: Surface Mount; Min Operating Temperature: -40°C; Max Operating Temperature: 85°C; Package Quantity: 1000; Frequency: 16MHz; Frequency Tolerance: 30ppm; Load Capacitance: 18pF; Packaging: Tape and Reel; Tolerance: 30ppm; Frequency Stability: 30ppm; Termination: SMD/SMT; Series Resistance: 40R; Length: 11.05mm; Height: 0.13inch; Width: 0.185inch; Depth: 4.8mm; REACH SVHC: Unknown; Lead Free: Lead Free; ComponentLink1URL: https://datasheet.ciiva.com/854/abls2-854400.pdf; ComponentLink1Description: https://datasheet.ciiva.com/854/abls2-854400.pdf; ComponentLink2URL: https://datasheet.ciiva.com/854/abls2-854401.pdf; ComponentLink2Description: https://datasheet.ciiva.com/854/abls2-854401.pdf; ComponentLink3URL: https://datasheet.ciiva.com/15116/getdatasheetpartid-719900-15116780.pdf; ComponentLink3Description: https://datasheet.ciiva.com/15116/getdatasheetpartid-719900-15116780.pdf; ComponentLink4URL: https://datasheet.ciiva.com/854/abls2-854399.pdf; ComponentLink4Description: https://datasheet.ciiva.com/854/abls2-854399.pdf; Supplier Part Number 1: 535-9875-1-ND
footprint XTAL
pins: 1, 2

## C2Q250
designator F?, comment 250mA
FUSE_0.25A SMD 0603 BOARD MNT 250MA 32VAC 63VDC; Manufacturer: Bel; Manufacturer Part Number: C2Q250; Voltage Rating (DC): 63V; Voltage Rating (AC): 32V; DC Cold Resistance: 700mR; Power Dissipation: 80mW; Fuse Type: Board Mount (Cartridge Style Excluded); Approvals: CE,cULus,cURus; Supplier 1: Digi-Key; Stock 1: 88874; Pricing 1: 1=0.33, 5=0.322, 10=0.308, 50=0.2746, 100=0.2557, 250=0.2273, 500=0.1894, 1000=0.18 (USD); Mount: Surface Mount; Case/Package: 0603; Number of Pins: 2; Case Code (Metric): 1608; Case Code (Imperial): 0603; Contact Plating: Tin; Housing Material: Ceramic; Min Operating Temperature: -55°C; Max Operating Temperature: 125°C; Current Rating: 250mA; Packaging: Tape and Reel; Max Voltage Rating (DC): 63V; Voltage Rating: 32V; Length: 0.063inch; Height: 0.019inch; Width: 0.032inch; Depth: 0.82mm; Lead Free: Lead Free; ComponentLink1URL: https://datasheet.ciiva.com/300/c2q-300599.pdf; ComponentLink1Description: https://datasheet.ciiva.com/300/c2q-300599.pdf; ComponentLink2URL: https://datasheet.ciiva.com/300/c2q-300600.pdf; ComponentLink2Description: https://datasheet.ciiva.com/300/c2q-300600.pdf; ComponentLink3URL: https://datasheet.ciiva.com/300/c2q-300601.pdf; ComponentLink3Description: https://datasheet.ciiva.com/300/c2q-300601.pdf; ComponentLink4URL: https://datasheet.ciiva.com/8264/c2q-8264041.pdf; ComponentLink4Description: https://datasheet.ciiva.com/8264/c2q-8264041.pdf; Supplier Part Number 1: 507-1086-1-ND
footprint FUSE_0603 (Chip Diode, 2-Leads, Body 1.60x0.80mm, IPC Medium Density)
pins: 1, 2

## CC1206KKX7RCBB102
designator C?, comment 1nF  Voltage Rating: 1kV  Dielectric: X7R
CAP MLCC 1000PF 1KV X7R 1206 Series Comm. Isolation Caps; Manufacturer: Yageo; Manufacturer Part Number: CC1206KKX7RCBB102; Description: CAP CER 1000PF 1KV X7R 1206; Dielectric Material: Ceramic; Tolerance: 10%; Supplier 1: Digi-Key; Stock 1: 28118; Pricing 1: 1=0.15, 10=0.106, 100=0.0501, 500=0.0351, 1000=0.0291 (USD); Mount: Surface Mount; Case/Package: 1206; Number of Pins: 2; Weight: 0.000571oz; Case Code (Imperial): 1206; Case Code (Metric): 3216; Min Operating Temperature: -55°C; Max Operating Temperature: 125°C; Capacitance: 1nF; Packaging: Tape and Reel; Package Quantity: 1; Voltage Rating (DC): 1kV; Termination: SMD/SMT; Composition: Ceramic; Length: 3.2mm; Height: 1.15mm; Width: 1.6mm; Thickness: 0.045inch; Depth: 1.6mm; Radiation Hardening: No; REACH SVHC: No SVHC; Lead Free: Lead Free; ComponentLink1URL: https://datasheet.ciiva.com/147/upy-np0x7r-hv-1kv-to-3kv-4-147253.pdf; ComponentLink1Description: https://datasheet.ciiva.com/147/upy-np0x7r-hv-1kv-to-3kv-4-147253.pdf; ComponentLink2URL: https://datasheet.ciiva.com/17435/hv-17435317.pdf; ComponentLink2Description: https://datasheet.ciiva.com/17435/hv-17435317.pdf; ComponentLink3URL: https://datasheet.ciiva.com/11466/hv-11466696.pdf; ComponentLink3Description: https://datasheet.ciiva.com/11466/hv-11466696.pdf; ComponentLink4URL: https://datasheet.ciiva.com/26863/getdatasheetpartid-651408-26863102.pdf; ComponentLink4Description: https://datasheet.ciiva.com/26863/getdatasheetpartid-651408-26863102.pdf; Supplier Part Number 1: 311-1144-1-ND
footprint C1206 (Chip Resistor, 2-Leads, Body 3.20x1.60mm, IPC Medium Density)
pins: 1, 2

## ERA-6AEB102V
designator R?, comment 1k
RES SMD 1K OHM 0805 1K Ohm 0.1% 0.125W(1/8W) ±25ppm/C Molded SMD Automotive Punched T/R; Manufacturer: Panasonic ECG; Manufacturer Part Number: ERA-6AEB102V; Voltage Rating: 100V; Resistance: 1kR; Power Rating: 125mW; Temperature Coefficient: 25ppm/°C; Supplier 1: Digi-Key; Stock 1: 506583; Pricing 1: 1=0.36, 10=0.302, 100=0.1182, 1000=0.0495, 2500=0.0454 (USD); Mount: Surface Mount; Case/Package: 0805; Number of Pins: 2; Case Code (Metric): 2012; Case Code (Imperial): 0805; Contact Plating: Tin; Min Operating Temperature: -55°C; Max Operating Temperature: 155°C; Packaging: Tape and Reel; Tolerance: 0.1%; Package Quantity: 5000; Composition: Thin Film; Number of Terminations: 2; Military Standard: Not; Termination: SMD/SMT; Max Power Dissipation: 125mW; Length: 2mm; Height: 0.5mm; Width: 1.25mm; Depth: 1.25mm; Radiation Hardening: No; REACH SVHC: No SVHC; ComponentLink1URL: https://datasheet.ciiva.com/11811/0900766b80beefcc-11811155.pdf; ComponentLink1Description: https://datasheet.ciiva.com/11811/0900766b80beefcc-11811155.pdf; ComponentLink2URL: https://datasheet.ciiva.com/30057/54aoa0000ce26-30057591.pdf; ComponentLink2Description: https://datasheet.ciiva.com/30057/54aoa0000ce26-30057591.pdf; ComponentLink3URL: https://datasheet.ciiva.com/48536/era-eng-tds-48536727.pdf; ComponentLink3Description: https://datasheet.ciiva.com/48536/era-eng-tds-48536727.pdf; ComponentLink4URL: https://datasheet.ciiva.com/9198/aoa0000ce26-9198984.pdf; ComponentLink4Description: https://datasheet.ciiva.com/9198/aoa0000ce26-9198984.pdf; ComponentLink5URL: https://datasheet.ciiva.com/16782/70068849-16782808.pdf; ComponentLink5Description: https://datasheet.ciiva.com/16782/70068849-16782808.pdf; ComponentLink6URL: https://datasheet.ciiva.com/24025/aoa0000ce26-197354-24025849.pdf; ComponentLink6Description: https://datasheet.ciiva.com/24025/aoa0000ce26-197354-24025849.pdf; ComponentLink7URL: https://datasheet.ciiva.com/43455/485442-43455257.pdf; ComponentLink7Description: https://datasheet.ciiva.com/43455/485442-43455257.pdf; ComponentLink8URL: https://datasheet.ciiva.com/43457/485442-43457803.pdf; ComponentLink8Description: https://datasheet.ciiva.com/43457/485442-43457803.pdf; ComponentLink9URL: https://datasheet.ciiva.com/7942/485442-7942414.pdf; ComponentLink9Description: https://datasheet.ciiva.com/7942/485442-7942414.pdf; ComponentLink10URL: https://datasheet.ciiva.com/16201/aoa0000ce26-16201486.pdf; ComponentLink10Description: https://datasheet.ciiva.com/16201/aoa0000ce26-16201486.pdf; ComponentLink11URL: https://datasheet.ciiva.com/22783/485442-22783806.pdf; ComponentLink11Description: https://datasheet.ciiva.com/22783/485442-22783806.pdf; ComponentLink12URL: https://datasheet.ciiva.com/7942/485442-7942415.pdf; ComponentLink12Description: https://datasheet.ciiva.com/7942/485442-7942415.pdf; ComponentLink13URL: https://datasheet.ciiva.com/29184/453027-da-01-en-widerstand-0805-era-29184108.pdf; ComponentLink13Description: https://datasheet.ciiva.com/29184/453027-da-01-en-widerstand-0805-era-29184108.pdf; Supplier Part Number 1: P1.0KDACT-ND
footprint R0805
pins: 1, 2

## ERB-RE0R50V
designator F?, comment 500mA
FUSE_0.5A SMD 0603, 0.5A; Manufacturer: Panasonic ECG; Manufacturer Part Number: ERB-RE0R50V; Body Material: Alumina; Voltage Rating (DC): 32V; DC Cold Resistance: 330mR; Fuse Type: Board Mount (Cartridge Style Excluded); Approvals: UL; Supplier 1: Digi-Key; Stock 1: 15715; Pricing 1: 1=0.29, 5=0.284, 10=0.272, 50=0.2424, 100=0.2257, 250=0.2006, 500=0.1672, 1000=0.1588 (USD); Mount: Surface Mount; Case/Package: 0603; Number of Pins: 2; Case Code (Metric): 1608; Case Code (Imperial): 0603; Min Operating Temperature: -40°C; Max Operating Temperature: 125°C; Current Rating: 500mA; Packaging: Tape and Reel; Package Quantity: 5000; Max Voltage Rating (DC): 32V; Voltage Rating: 32V; Current: 500mA; Fuse Current: 500mA; Length: 1.6mm; Height: 0.54mm; Width: 0.8mm; Depth: 0.8mm; Radiation Hardening: No; REACH SVHC: No SVHC; ComponentLink1URL: https://datasheet.ciiva.com/299/afa0000ce6-299092.pdf; ComponentLink1Description: https://datasheet.ciiva.com/299/afa0000ce6-299092.pdf; ComponentLink2URL: https://datasheet.ciiva.com/299/afa0000ce6-299093.pdf; ComponentLink2Description: https://datasheet.ciiva.com/299/afa0000ce6-299093.pdf; ComponentLink3URL: https://datasheet.ciiva.com/299/afa0000ce6-299094.pdf; ComponentLink3Description: https://datasheet.ciiva.com/299/afa0000ce6-299094.pdf; ComponentLink4URL: https://datasheet.ciiva.com/25619/0900766b810c2f76-25619783.pdf; ComponentLink4Description: https://datasheet.ciiva.com/25619/0900766b810c2f76-25619783.pdf; ComponentLink5URL: https://datasheet.ciiva.com/11337/afa0000ce6-11337817.pdf; ComponentLink5Description: https://datasheet.ciiva.com/11337/afa0000ce6-11337817.pdf; ComponentLink6URL: https://datasheet.ciiva.com/5813/1328695-5813626.pdf; ComponentLink6Description: https://datasheet.ciiva.com/5813/1328695-5813626.pdf; ComponentLink7URL: https://datasheet.ciiva.com/46388/1328695-46388892.pdf; ComponentLink7Description: https://datasheet.ciiva.com/46388/1328695-46388892.pdf; ComponentLink8URL: https://datasheet.ciiva.com/30017/afa0000ce6-30017405.pdf; ComponentLink8Description: https://datasheet.ciiva.com/30017/afa0000ce6-30017405.pdf; ComponentLink9URL: https://datasheet.ciiva.com/46376/1328695-46376557.pdf; ComponentLink9Description: https://datasheet.ciiva.com/46376/1328695-46376557.pdf; Supplier Part Number 1: P15127CT-ND
footprint FUSE_0603 (Chip Diode, 2-Leads, Body 1.60x0.80mm, IPC Medium Density)
pins: 1, 2

## ERJ-M1WTF1M0U
designator R?, comment 0R001
Res Thick Film 2512 0.001 Ohm 1% 1W 250ppm/C to 450ppm/C Molded SMD Embossed Carrier T/R; Manufacturer: Panasonic ECG; Manufacturer Part Number: ERJ-M1WTF1M0U; Resistance: 1mR; Temperature Coefficient: 450ppm/°C; Supplier 1: Digi-Key; Stock 1: 36740; Pricing 1: 1=0.55, 10=0.456, 25=0.3908, 50=0.3516, 100=0.3061, 250=0.2735, 500=0.2214, 1000=0.1791 (USD); Mount: Surface Mount; Case/Package: 2512; Number of Pins: 2; Case Code (Metric): 6432; Case Code (Imperial): 2512; Contact Plating: Tin; Min Operating Temperature: -55°C; Max Operating Temperature: 170°C; Package Quantity: 1; Packaging: Tape and Reel; Power Rating: 1W; Tolerance: 1%; Composition: Thick Film,Metal Strip,Metal Element; Number of Terminations: 2; Termination: SMD/SMT; Military Standard: Not; Max Power Dissipation: 1W; Length: 6.4mm; Height: 0.8mm; Width: 0.126inch; Depth: 3.2mm; Radiation Hardening: No; REACH SVHC: No SVHC; Lead Free: Lead Free; ComponentLink1URL: https://datasheet.ciiva.com/11811/0900766b80befc3b-11811491.pdf; ComponentLink1Description: https://datasheet.ciiva.com/11811/0900766b80befc3b-11811491.pdf; ComponentLink2URL: https://datasheet.ciiva.com/9198/aoa0000ce7-9198885.pdf; ComponentLink2Description: https://datasheet.ciiva.com/9198/aoa0000ce7-9198885.pdf; ComponentLink3URL: https://datasheet.ciiva.com/7777/39800-7777943.pdf; ComponentLink3Description: https://datasheet.ciiva.com/7777/39800-7777943.pdf; ComponentLink4URL: https://datasheet.ciiva.com/16216/aoa0000ce7-16216983.pdf; ComponentLink4Description: https://datasheet.ciiva.com/16216/aoa0000ce7-16216983.pdf; ComponentLink5URL: https://datasheet.ciiva.com/24072/aoa0000ce7-60136-24072248.pdf; ComponentLink5Description: https://datasheet.ciiva.com/24072/aoa0000ce7-60136-24072248.pdf; ComponentLink6URL: https://datasheet.ciiva.com/16512/aoa0000ce7-16512553.pdf; ComponentLink6Description: https://datasheet.ciiva.com/16512/aoa0000ce7-16512553.pdf; ComponentLink7URL: https://datasheet.ciiva.com/16788/70260812-16788394.pdf; ComponentLink7Description: https://datasheet.ciiva.com/16788/70260812-16788394.pdf; ComponentLink8URL: https://datasheet.ciiva.com/5996/39800-5996507.pdf; ComponentLink8Description: https://datasheet.ciiva.com/5996/39800-5996507.pdf; ComponentLink9URL: https://datasheet.ciiva.com/17215/aoa0000ce7-17215229.pdf; ComponentLink9Description: https://datasheet.ciiva.com/17215/aoa0000ce7-17215229.pdf; ComponentLink10URL: https://datasheet.ciiva.com/30206/aoa0000ce7-30206797.pdf; ComponentLink10Description: https://datasheet.ciiva.com/30206/aoa0000ce7-30206797.pdf; ComponentLink11URL: https://datasheet.ciiva.com/16785/70260812-16785566.pdf; ComponentLink11Description: https://datasheet.ciiva.com/16785/70260812-16785566.pdf; Supplier Part Number 1: P1.0NDCT-ND
footprint R2512
pins: 1, 2

## F381A106MMA
designator C?, comment 10uF  Voltage Rating: 10V
CAP TANTALUM 10uF, 0603 [1608 Metric], 0.5 ohm, 10 V AVX  Surface Mount Tantalum Capacitor, F38 Series, 10uF, 0603 [1608 Metric], 0.5 ohm, 10 V; Manufacturer: Kyocera AVX; Manufacturer Part Number: F381A106MMA; Tolerance: 20%; ESR (Equivalent Series Resistance): 500mR; Life (Hours): 1000Hour; Dissipation Factor: 15%; Leakage Current: 10uA; Supplier 1: Digi-Key; Stock 1: 7989; Pricing 1: 1=0.75, 10=0.551, 100=0.3779, 500=0.2992, 1000=0.2519 (USD); Case/Package: 0603; Weight: 7.1E-05oz; Case Code (Metric): 1608; Case Code (Imperial): 0603; Min Operating Temperature: -55°C; Max Operating Temperature: 105°C; Capacitance: 10uF; Packaging: Tape and Reel; Termination: SMD/SMT; Package Quantity: 4000; Voltage Rating (DC): 10V; Length: 1.6mm; Height: 0.8mm; Width: 0.033inch; Height - Seated (Max): 0.035inch; Depth: 0.85mm; Radiation Hardening: No; REACH SVHC: No SVHC; ComponentLink1URL: https://datasheet.ciiva.com/48510/f38-48510901.pdf; ComponentLink1Description: https://datasheet.ciiva.com/48510/f38-48510901.pdf; ComponentLink2URL: https://datasheet.ciiva.com/46417/1805432-46417517.pdf; ComponentLink2Description: https://datasheet.ciiva.com/46417/1805432-46417517.pdf; ComponentLink3URL: https://datasheet.ciiva.com/46417/1805432-46417518.pdf; ComponentLink3Description: https://datasheet.ciiva.com/46417/1805432-46417518.pdf; Supplier Part Number 1: 478-9527-1-ND
footprint TANT_10u (DFN, 2-Leads, Body 0.85x1.60mm, Pitch 1.10mm, IPC Medium Density)
pins: 1, 2

## FBMJ4516HL230NTV
designator FB?, comment 23R @ 100 MHz  Max Current Rating: 3.5A
FERRITE BEAD Ind Chip Bead Multi-Layer 23Ohm 30% 100MHz Ferrite 3.5A 1806 T/R; Manufacturer: Taiyo Yuden; Manufacturer Part Number: FBMJ4516HL230NTV; Resistance: 180623R; Number of Lines: 1; DC Resistance (DCR): 14mR; Supplier 1: Digi-Key; Stock 1: 1819; Pricing 1: 1=0.26, 10=0.202, 25=0.1676, 50=0.1444, 100=0.1299, 250=0.1097, 500=0.0982, 1000=0.0837 (USD); Mount: Surface Mount; Case/Package: 1806; Core Material: Ferrite; Case Code (Metric): 4516; Case Code (Imperial): 1806; Min Operating Temperature: -40°C; Max Operating Temperature: 125°C; Tolerance: 30%; Impedance: 23R; Package Quantity: 2000; Packaging: Tape and Reel; Max DC Current: 3.5A; Termination: SMD/SMT; Test Frequency: 100MHz; Length: 0.177inch; Height: 1.1mm; Width: 1.6mm; Depth: 1.6mm; ComponentLink1URL: http://www.mouser.com/ds/2/396/chipbeads01_e-559265.pdf; ComponentLink1Description: http://www.mouser.com/ds/2/396/chipbeads01_e-559265.pdf; ComponentLink2URL: http://ds.yuden.co.jp/TYCOMPAS/ut/detail.do?productNo=FBMJ4516HL230NTV&fileName=FBMJ4516HL230NTV_SS&mode=specSheetDownload; ComponentLink2Description: http://ds.yuden.co.jp/TYCOMPAS/ut/detail.do?productNo=FBMJ4516HL230NTV&fileName=FBMJ4516HL230NTV_SS&mode=specSheetDownload; ComponentLink3URL: https://www.yuden.co.jp/ut/product/category/emisuppression/FBMJ4516HL230NTV_SS.pdf; ComponentLink3Description: https://www.yuden.co.jp/ut/product/category/emisuppression/FBMJ4516HL230NTV_SS.pdf; Supplier Part Number 1: 587-3857-1-ND
footprint FB_1806 (Chip Inductor, 2-Leads, Body 4.50x1.60mm, IPC Medium Density)
pins: 1, 2